# Altium integrated library Linear Technology Power Management uModule Regulators.IntLib: 166 symbols (part 37 of 67)
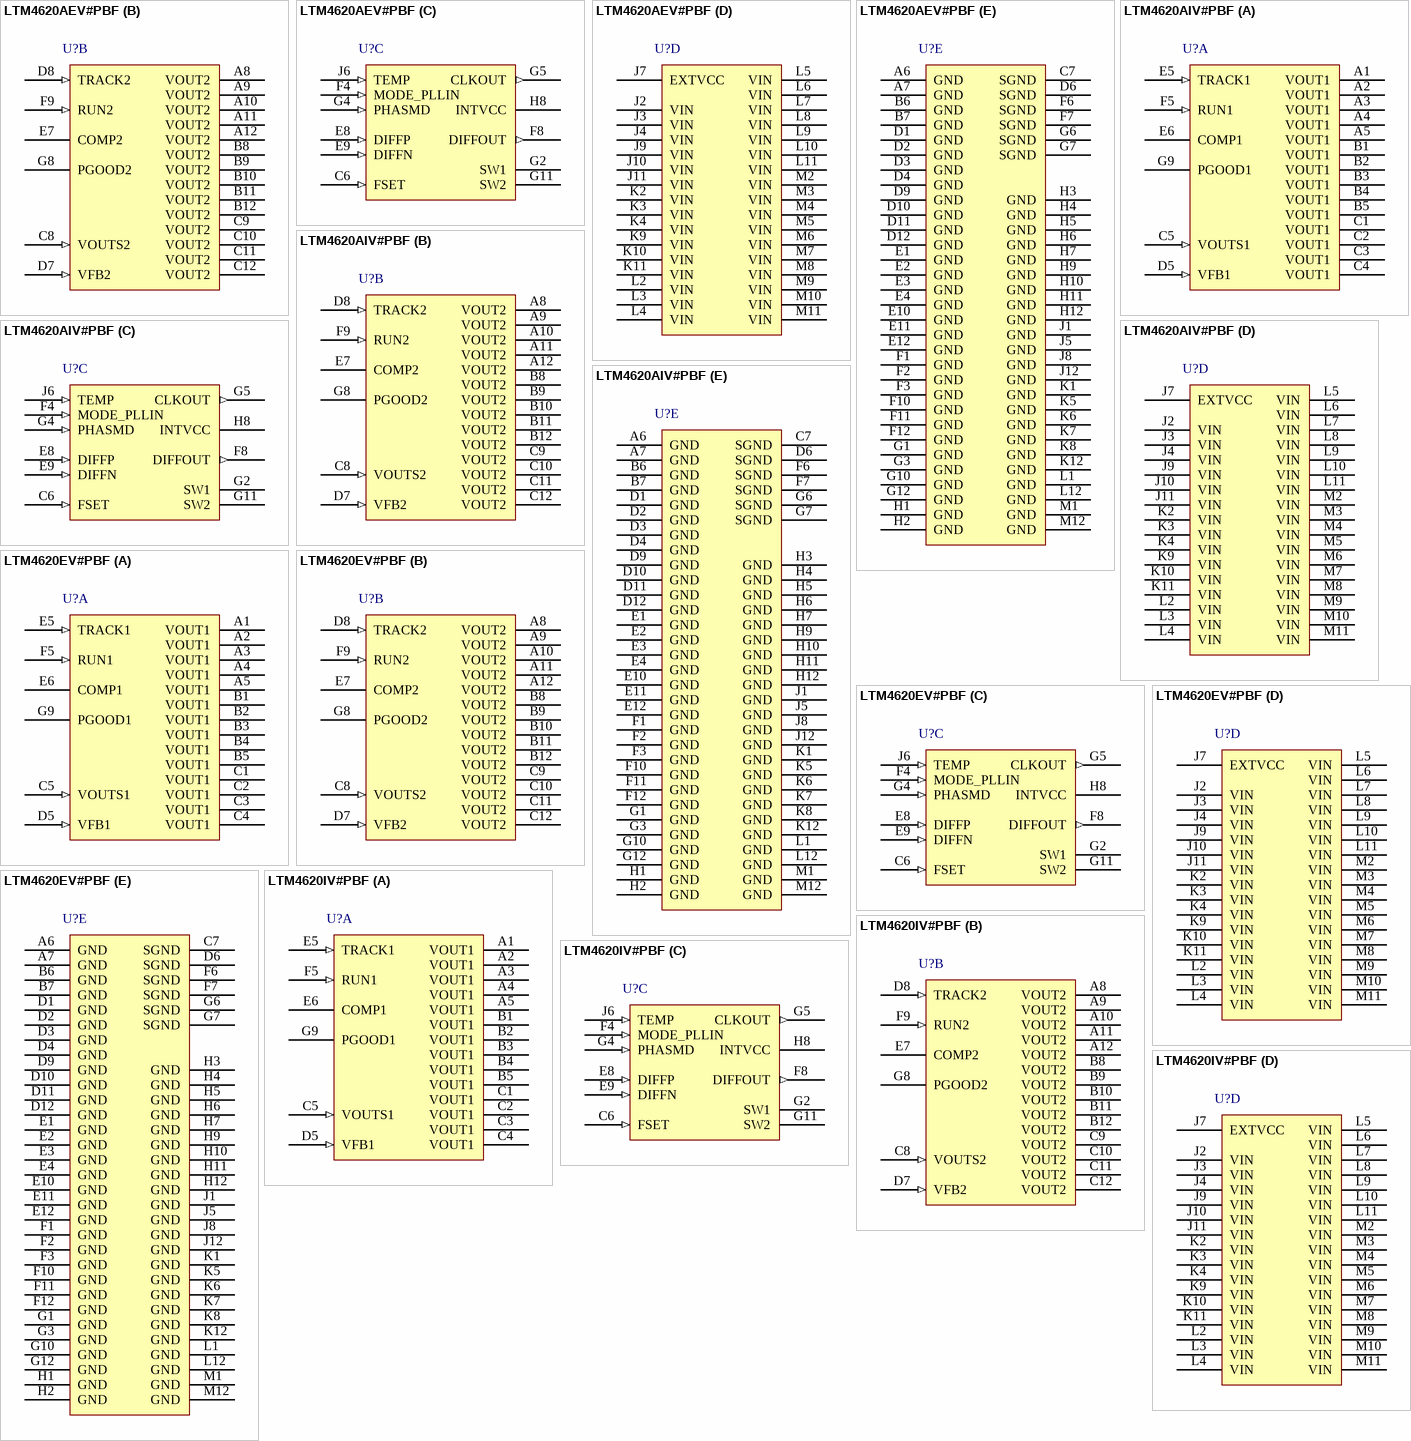
[diagram p63: symbols LTM4620AEV#PBF to LTM4620IV#PBF]

## LTM4620EV#PBF
designator U?
Dual 13 A or Single 26 A DC/DC uModule Regulator, 144-pin LGA, -40 to 125 degC, Pb-Free, Tray; Manufacturer: Linear Technology; PartNumber: LTM4620EV#PBF; Extended Temp: E, I; Frequency Adjust Range: 250kHz - 780kHz; Frequency Sync Range: 400kHz - 780kHz; Frequency(kHz): 500; Ishutdown(uA): 50; Isupply(mA): 5; Number of Outputs: 2; Output Current(A): 13; Switch Current(A): 20; Synchronous: yes; Topology: Buck; Vin Max(V): 16; Vin Min(V): 4.5; Vout Max(V): 2.5; Vout Min(V): 0.6; PackageVersion: Rev. C, 01/2013; PackageReference: LGA-144; PackageDescription: 144-Ball LGA, Body 15 x 15 mm, Pitch 1.27 mm; Supplier 1: Digi-Key; Supplier Part Number 1: LTM4620EV#PBF-ND; Supplier 2: Farnell; Supplier Part Number 2: 2216781; Supplier 3: Newark; Supplier Part Number 3: 27W9514; Packing: Tray; RoHS: TRUE; Tracking: yes; Mounting Technology: Surface Mount; Code_JEDEC: MO-222; ComponentLink1Description: Manufacturer URL; ComponentLink1URL: http://www.linear.com/; ComponentLink2Description: Datasheet; ComponentLink2URL: http://cds.linear.com/docs/en/datasheet/4620f.pdf; ComponentLink3Description: Package Specification; ComponentLink3URL: http://cds.linear.com/docs/en/packaging/05081844_C_lga144.pdf
footprint LT-LGA-144-05-08-1844_V (LGA, 144-Leads, Body 15x15mm, Pitch 1.27mm)
part A pins: A1 VOUT1 (power) "Power Output Pins. Apply output load between these pins and GND pins. Recommend placing output decoupling capacitance directly between these pins and GND pins. Review Table 4. See Note 8 in the Electrical Characteristics (See Datasheet)", A2 VOUT1 (power) "Power Output Pins. Apply output load between these pins and GND pins. Recommend placing output decoupling capacitance directly between these pins and GND pins. Review Table 4. See Note 8 in the Electrical Characteristics (See Datasheet)", A3 VOUT1 (power) "Power Output Pins. Apply output load between these pins and GND pins. Recommend placing output decoupling capacitance directly between these pins and GND pins. Review Table 4. See Note 8 in the Electrical Characteristics (See Datasheet)", A4 VOUT1 (power) "Power Output Pins. Apply output load between these pins and GND pins. Recommend placing output decoupling capacitance directly between these pins and GND pins. Review Table 4. See Note 8 in the Electrical Characteristics (See Datasheet)", A5 VOUT1 (power) "Power Output Pins. Apply output load between these pins and GND pins. Recommend placing output decoupling capacitance directly between these pins and GND pins. Review Table 4. See Note 8 in the Electrical Characteristics (See Datasheet)", B1 VOUT1 (power) "Power Output Pins. Apply output load between these pins and GND pins. Recommend placing output decoupling capacitance directly between these pins and GND pins. Review Table 4. See Note 8 in the Electrical Characteristics (See Datasheet)", B2 VOUT1 (power) "Power Output Pins. Apply output load between these pins and GND pins. Recommend placing output decoupling capacitance directly between these pins and GND pins. Review Table 4. See Note 8 in the Electrical Characteristics (See Datasheet)", B3 VOUT1 (power) "Power Output Pins. Apply output load between these pins and GND pins. Recommend placing output decoupling capacitance directly between these pins and GND pins. Review Table 4. See Note 8 in the Electrical Characteristics (See Datasheet)", B4 VOUT1 (power) "Power Output Pins. Apply output load between these pins and GND pins. Recommend placing output decoupling capacitance directly between these pins and GND pins. Review Table 4. See Note 8 in the Electrical Characteristics (See Datasheet)", B5 VOUT1 (power) "Power Output Pins. Apply output load between these pins and GND pins. Recommend placing output decoupling capacitance directly between these pins and GND pins. Review Table 4. See Note 8 in the Electrical Characteristics (See Datasheet)", C1 VOUT1 (power) "Power Output Pins. Apply output load between these pins and GND pins. Recommend placing output decoupling capacitance directly between these pins and GND pins. Review Table 4. See Note 8 in the Electrical Characteristics (See Datasheet)", C2 VOUT1 (power) "Power Output Pins. Apply output load between these pins and GND pins. Recommend placing output decoupling capacitance directly between these pins and GND pins. Review Table 4. See Note 8 in the Electrical Characteristics (See Datasheet)", C3 VOUT1 (power) "Power Output Pins. Apply output load between these pins and GND pins. Recommend placing output decoupling capacitance directly between these pins and GND pins. Review Table 4. See Note 8 in the Electrical Characteristics (See Datasheet)", C4 VOUT1 (power) "Power Output Pins. Apply output load between these pins and GND pins. Recommend placing output decoupling capacitance directly between these pins and GND pins. Review Table 4. See Note 8 in the Electrical Characteristics (See Datasheet)", C5 VOUTS1 (in) "This pin is connected to the top of the internal top feedback resistor for each output. The pin can be directly connected to its specific output, or connected to DIFFOUT when the remote sense amplifier is used. In (See Datasheet)", D5 VFB1 (in) "The Negative Input of the Error Amplifier for Each Channel. Internally, this pin is connected to VOUTS1 or VOUTS2 with a 60.4kohm precision resistor. Different output voltages can be programmed with an additional resistor (See Datasheet)", E5 TRACK1 (in) "Output Voltage Tracking Pin and Soft-Start Inputs. Each channel has a 1.3uA pull-up current source. When one channel is configured to be master of the two channels, then a capacitor from this pin to ground will set a (See Datasheet)", E6 COMP1 "Current control threshold and error amplifier compensation point for each channel. The current comparator threshold increases with this control voltage. Tie the COMP pins together for parallel operation. The device is (See Datasheet)", F5 RUN1 (in) "Run Control Pin. A voltage above 1.25V will turn on each channel in the module. A voltage below 1.25V on the RUN pin will turn off the related channel. Each RUN pin has a 1uA pull-up current, once the RUN pin reaches 1.2V an (See Datasheet)", G9 PGOOD1 (oc) "Output Voltage Power Good Indicator. Open drain logic output that is pulled to ground when the output voltage is not within +/-10% of the regulation point."
part B pins: A8 VOUT2 (power) "Power Output Pins. Apply output load between these pins and GND pins. Recommend placing output decoupling capacitance directly between these pins and GND pins. Review Table 4. See Note 8 in the Electrical Characteristics (See Datasheet)", A9 VOUT2 (power) "Power Output Pins. Apply output load between these pins and GND pins. Recommend placing output decoupling capacitance directly between these pins and GND pins. Review Table 4. See Note 8 in the Electrical Characteristics (See Datasheet)", A10 VOUT2 (power) "Power Output Pins. Apply output load between these pins and GND pins. Recommend placing output decoupling capacitance directly between these pins and GND pins. Review Table 4. See Note 8 in the Electrical Characteristics (See Datasheet)", A11 VOUT2 (power) "Power Output Pins. Apply output load between these pins and GND pins. Recommend placing output decoupling capacitance directly between these pins and GND pins. Review Table 4. See Note 8 in the Electrical Characteristics (See Datasheet)", A12 VOUT2 (power) "Power Output Pins. Apply output load between these pins and GND pins. Recommend placing output decoupling capacitance directly between these pins and GND pins. Review Table 4. See Note 8 in the Electrical Characteristics (See Datasheet)", B8 VOUT2 (power) "Power Output Pins. Apply output load between these pins and GND pins. Recommend placing output decoupling capacitance directly between these pins and GND pins. Review Table 4. See Note 8 in the Electrical Characteristics (See Datasheet)", B9 VOUT2 (power) "Power Output Pins. Apply output load between these pins and GND pins. Recommend placing output decoupling capacitance directly between these pins and GND pins. Review Table 4. See Note 8 in the Electrical Characteristics (See Datasheet)", B10 VOUT2 (power) "Power Output Pins. Apply output load between these pins and GND pins. Recommend placing output decoupling capacitance directly between these pins and GND pins. Review Table 4. See Note 8 in the Electrical Characteristics (See Datasheet)", B11 VOUT2 (power) "Power Output Pins. Apply output load between these pins and GND pins. Recommend placing output decoupling capacitance directly between these pins and GND pins. Review Table 4. See Note 8 in the Electrical Characteristics (See Datasheet)", B12 VOUT2 (power) "Power Output Pins. Apply output load between these pins and GND pins. Recommend placing output decoupling capacitance directly between these pins and GND pins. Review Table 4. See Note 8 in the Electrical Characteristics (See Datasheet)", C8 VOUTS2 (in) "This pin is connected to the top of the internal top feedback resistor for each output. The pin can be directly connected to its specific output, or connected to DIFFOUT when the remote sense amplifier is used. In (See Datasheet)", C9 VOUT2 (power) "Power Output Pins. Apply output load between these pins and GND pins. Recommend placing output decoupling capacitance directly between these pins and GND pins. Review Table 4. See Note 8 in the Electrical Characteristics (See Datasheet)", C10 VOUT2 (power) "Power Output Pins. Apply output load between these pins and GND pins. Recommend placing output decoupling capacitance directly between these pins and GND pins. Review Table 4. See Note 8 in the Electrical Characteristics (See Datasheet)", C11 VOUT2 (power) "Power Output Pins. Apply output load between these pins and GND pins. Recommend placing output decoupling capacitance directly between these pins and GND pins. Review Table 4. See Note 8 in the Electrical Characteristics (See Datasheet)", C12 VOUT2 (power) "Power Output Pins. Apply output load between these pins and GND pins. Recommend placing output decoupling capacitance directly between these pins and GND pins. Review Table 4. See Note 8 in the Electrical Characteristics (See Datasheet)", D7 VFB2 (in) "The Negative Input of the Error Amplifier for Each Channel. Internally, this pin is connected to VOUTS1 or VOUTS2 with a 60.4kohm precision resistor. Different output voltages can be programmed with an additional resistor (See Datasheet)", D8 TRACK2 (in) "Output Voltage Tracking Pin and Soft-Start Inputs. Each channel has a 1.3uA pull-up current source. When one channel is configured to be master of the two channels, then a capacitor from this pin to ground will set a (See Datasheet)", E7 COMP2 "Current control threshold and error amplifier compensation point for each channel. The current comparator threshold increases with this control voltage. Tie the COMP pins together for parallel operation. The device is (See Datasheet)", F9 RUN2 (in) "Run Control Pin. A voltage above 1.25V will turn on each channel in the module. A voltage below 1.25V on the RUN pin will turn off the related channel. Each RUN pin has a 1uA pull-up current, once the RUN pin reaches 1.2V an (See Datasheet)", G8 PGOOD2 (oc) "Output Voltage Power Good Indicator. Open drain logic output that is pulled to ground when the output voltage is not within +/-10% of the regulation point."
part C pins: C6 FSET (in) "Frequency Set Pin. A 10uA current is sourced from this pin. A resistor from this pin to ground sets a voltage that in turn programs the operating frequency. Alternatively, this pin can be driven with a DC voltage that can (See Datasheet)", E8 DIFFP (in) "Positive input of the remote sense amplifier. This pin is connected to the remote sense point of the output voltage. See the Applications Information section.", E9 DIFFN (in) "Negative input of the remote sense amplifier. This pin is connected to the remote sense point of the output GND. See the Applications Information section.", F4 MODE_PLLIN (in) "Force Continuous Mode, Burst Mode Operation, or Pulse-Skipping Mode Selection Pin and External Synchronization Input to Phase Detector Pin. Connect this pin to SGND to force both channels into force continuous mode of (See Datasheet)", F8 DIFFOUT (out) "Internal Remote Sense Amplifier Output. Connect this pin to VOUTS1 or VOUTS2 depending on which output is using remote sense. In parallel operation connect one of the VOUTS pin to DIFFOUT for remote sensing.", G2 SW1 "Switching node of each channel that is used for testing purposes. Also an R-C snubber network can be applied to reduce or eliminate switch node ringing, or otherwise leave floating. See the Applications Information section.", G4 PHASMD (in) "Connect this pin to SGND, INTVCC, or floating this pin to select the phase of CLKOUT to 60 degrees, 120 degrees, and 90 degrees respectively.", G5 CLKOUT (out) "Clock output with phase control using the PHASMD pin to enable multiphase operation between devices. See the Applications Information section.", G11 SW2 "Switching node of each channel that is used for testing purposes. Also an R-C snubber network can be applied to reduce or eliminate switch node ringing, or otherwise leave floating. See the Applications Information section.", H8 INTVCC (power) "Internal 5V Regulator Output. The control circuits and internal gate drivers are powered from this voltage. Decouple this pin to PGND with a 4.7uF low ESR tantalum or ceramic. INTVCC is activated when either RUN1 or RUN2 is (See Datasheet)", J6 TEMP (in) "Onboard Temperature Diode for Monitoring the VBE Junction Voltage Change with Temperature. See the Applications Information section."
part D pins: J2 VIN (power) "Power Input Pins. Apply input voltage between these pins and GND pins. Recommend placing input decoupling capacitance directly between VIN pins and GND pins.", J3 VIN (power) "Power Input Pins. Apply input voltage between these pins and GND pins. Recommend placing input decoupling capacitance directly between VIN pins and GND pins.", J4 VIN (power) "Power Input Pins. Apply input voltage between these pins and GND pins. Recommend placing input decoupling capacitance directly between VIN pins and GND pins.", J7 EXTVCC (power) "External power input that is enabled through a switch to INTVCC whenever EXTVCC is greater than 4.7V. Do not exceed 6V on this input, and connect this pin to VIN when operating VIN on 5V. An efficiency increase will occur (See Datasheet)", J9 VIN (power) "Power Input Pins. Apply input voltage between these pins and GND pins. Recommend placing input decoupling capacitance directly between VIN pins and GND pins.", J10 VIN (power) "Power Input Pins. Apply input voltage between these pins and GND pins. Recommend placing input decoupling capacitance directly between VIN pins and GND pins.", J11 VIN (power) "Power Input Pins. Apply input voltage between these pins and GND pins. Recommend placing input decoupling capacitance directly between VIN pins and GND pins.", K2 VIN (power) "Power Input Pins. Apply input voltage between these pins and GND pins. Recommend placing input decoupling capacitance directly between VIN pins and GND pins.", K3 VIN (power) "Power Input Pins. Apply input voltage between these pins and GND pins. Recommend placing input decoupling capacitance directly between VIN pins and GND pins.", K4 VIN (power) "Power Input Pins. Apply input voltage between these pins and GND pins. Recommend placing input decoupling capacitance directly between VIN pins and GND pins.", K9 VIN (power) "Power Input Pins. Apply input voltage between these pins and GND pins. Recommend placing input decoupling capacitance directly between VIN pins and GND pins.", K10 VIN (power) "Power Input Pins. Apply input voltage between these pins and GND pins. Recommend placing input decoupling capacitance directly between VIN pins and GND pins.", K11 VIN (power) "Power Input Pins. Apply input voltage between these pins and GND pins. Recommend placing input decoupling capacitance directly between VIN pins and GND pins.", L2 VIN (power) "Power Input Pins. Apply input voltage between these pins and GND pins. Recommend placing input decoupling capacitance directly between VIN pins and GND pins.", L3 VIN (power) "Power Input Pins. Apply input voltage between these pins and GND pins. Recommend placing input decoupling capacitance directly between VIN pins and GND pins.", L4 VIN (power) "Power Input Pins. Apply input voltage between these pins and GND pins. Recommend placing input decoupling capacitance directly between VIN pins and GND pins.", L5 VIN (power) "Power Input Pins. Apply input voltage between these pins and GND pins. Recommend placing input decoupling capacitance directly between VIN pins and GND pins.", L6 VIN (power) "Power Input Pins. Apply input voltage between these pins and GND pins. Recommend placing input decoupling capacitance directly between VIN pins and GND pins.", L7 VIN (power) "Power Input Pins. Apply input voltage between these pins and GND pins. Recommend placing input decoupling capacitance directly between VIN pins and GND pins.", L8 VIN (power) "Power Input Pins. Apply input voltage between these pins and GND pins. Recommend placing input decoupling capacitance directly between VIN pins and GND pins.", L9 VIN (power) "Power Input Pins. Apply input voltage between these pins and GND pins. Recommend placing input decoupling capacitance directly between VIN pins and GND pins.", L10 VIN (power) "Power Input Pins. Apply input voltage between these pins and GND pins. Recommend placing input decoupling capacitance directly between VIN pins and GND pins.", L11 VIN (power) "Power Input Pins. Apply input voltage between these pins and GND pins. Recommend placing input decoupling capacitance directly between VIN pins and GND pins.", M2 VIN (power) "Power Input Pins. Apply input voltage between these pins and GND pins. Recommend placing input decoupling capacitance directly between VIN pins and GND pins.", M3 VIN (power) "Power Input Pins. Apply input voltage between these pins and GND pins. Recommend placing input decoupling capacitance directly between VIN pins and GND pins.", M4 VIN (power) "Power Input Pins. Apply input voltage between these pins and GND pins. Recommend placing input decoupling capacitance directly between VIN pins and GND pins.", M5 VIN (power) "Power Input Pins. Apply input voltage between these pins and GND pins. Recommend placing input decoupling capacitance directly between VIN pins and GND pins.", M6 VIN (power) "Power Input Pins. Apply input voltage between these pins and GND pins. Recommend placing input decoupling capacitance directly between VIN pins and GND pins.", M7 VIN (power) "Power Input Pins. Apply input voltage between these pins and GND pins. Recommend placing input decoupling capacitance directly between VIN pins and GND pins.", M8 VIN (power) "Power Input Pins. Apply input voltage between these pins and GND pins. Recommend placing input decoupling capacitance directly between VIN pins and GND pins.", M9 VIN (power) "Power Input Pins. Apply input voltage between these pins and GND pins. Recommend placing input decoupling capacitance directly between VIN pins and GND pins.", M10 VIN (power) "Power Input Pins. Apply input voltage between these pins and GND pins. Recommend placing input decoupling capacitance directly between VIN pins and GND pins.", M11 VIN (power) "Power Input Pins. Apply input voltage between these pins and GND pins. Recommend placing input decoupling capacitance directly between VIN pins and GND pins."
part E pins: A6 GND (power) "Power Ground Pins for Both Input and Output Returns.", A7 GND (power) "Power Ground Pins for Both Input and Output Returns.", B6 GND (power) "Power Ground Pins for Both Input and Output Returns.", B7 GND (power) "Power Ground Pins for Both Input and Output Returns.", C7 SGND (power) "Signal Ground Pin. Return ground path for all analog and low power circuitry. Tie a single connection to the output capacitor GND in the application. See layout guidelines in Figure 22.", D1 GND (power) "Power Ground Pins for Both Input and Output Returns.", D2 GND (power) "Power Ground Pins for Both Input and Output Returns.", D3 GND (power) "Power Ground Pins for Both Input and Output Returns.", D4 GND (power) "Power Ground Pins for Both Input and Output Returns.", D6 SGND (power) "Signal Ground Pin. Return ground path for all analog and low power circuitry. Tie a single connection to the output capacitor GND in the application. See layout guidelines in Figure 22.", D9 GND (power) "Power Ground Pins for Both Input and Output Returns.", D10 GND (power) "Power Ground Pins for Both Input and Output Returns.", D11 GND (power) "Power Ground Pins for Both Input and Output Returns.", D12 GND (power) "Power Ground Pins for Both Input and Output Returns.", E1 GND (power) "Power Ground Pins for Both Input and Output Returns.", E2 GND (power) "Power Ground Pins for Both Input and Output Returns.", E3 GND (power) "Power Ground Pins for Both Input and Output Returns.", E4 GND (power) "Power Ground Pins for Both Input and Output Returns.", E10 GND (power) "Power Ground Pins for Both Input and Output Returns.", E11 GND (power) "Power Ground Pins for Both Input and Output Returns.", E12 GND (power) "Power Ground Pins for Both Input and Output Returns.", F1 GND (power) "Power Ground Pins for Both Input and Output Returns.", F2 GND (power) "Power Ground Pins for Both Input and Output Returns.", F3 GND (power) "Power Ground Pins for Both Input and Output Returns.", F6 SGND (power) "Signal Ground Pin. Return ground path for all analog and low power circuitry. Tie a single connection to the output capacitor GND in the application. See layout guidelines in Figure 22.", F7 SGND (power) "Signal Ground Pin. Return ground path for all analog and low power circuitry. Tie a single connection to the output capacitor GND in the application. See layout guidelines in Figure 22.", F10 GND (power) "Power Ground Pins for Both Input and Output Returns.", F11 GND (power) "Power Ground Pins for Both Input and Output Returns.", F12 GND (power) "Power Ground Pins for Both Input and Output Returns.", G1 GND (power) "Power Ground Pins for Both Input and Output Returns.", G3 GND (power) "Power Ground Pins for Both Input and Output Returns.", G6 SGND (power) "Signal Ground Pin. Return ground path for all analog and low power circuitry. Tie a single connection to the output capacitor GND in the application. See layout guidelines in Figure 22.", G7 SGND (power) "Signal Ground Pin. Return ground path for all analog and low power circuitry. Tie a single connection to the output capacitor GND in the application. See layout guidelines in Figure 22.", G10 GND (power) "Power Ground Pins for Both Input and Output Returns.", G12 GND (power) "Power Ground Pins for Both Input and Output Returns.", H1 GND (power) "Power Ground Pins for Both Input and Output Returns.", H2 GND (power) "Power Ground Pins for Both Input and Output Returns.", H3 GND (power) "Power Ground Pins for Both Input and Output Returns.", H4 GND (power) "Power Ground Pins for Both Input and Output Returns.", H5 GND (power) "Power Ground Pins for Both Input and Output Returns.", H6 GND (power) "Power Ground Pins for Both Input and Output Returns.", H7 GND (power) "Power Ground Pins for Both Input and Output Returns.", H9 GND (power) "Power Ground Pins for Both Input and Output Returns.", H10 GND (power) "Power Ground Pins for Both Input and Output Returns.", H11 GND (power) "Power Ground Pins for Both Input and Output Returns.", H12 GND (power) "Power Ground Pins for Both Input and Output Returns.", J1 GND (power) "Power Ground Pins for Both Input and Output Returns.", J5 GND (power) "Power Ground Pins for Both Input and Output Returns.", J8 GND (power) "Power Ground Pins for Both Input and Output Returns.", J12 GND (power) "Power Ground Pins for Both Input and Output Returns.", K1 GND (power) "Power Ground Pins for Both Input and Output Returns.", K5 GND (power) "Power Ground Pins for Both Input and Output Returns.", K6 GND (power) "Power Ground Pins for Both Input and Output Returns.", K7 GND (power) "Power Ground Pins for Both Input and Output Returns.", K8 GND (power) "Power Ground Pins for Both Input and Output Returns.", K12 GND (power) "Power Ground Pins for Both Input and Output Returns.", L1 GND (power) "Power Ground Pins for Both Input and Output Returns.", L12 GND (power) "Power Ground Pins for Both Input and Output Returns.", M1 GND (power) "Power Ground Pins for Both Input and Output Returns.", M12 GND (power) "Power Ground Pins for Both Input and Output Returns."

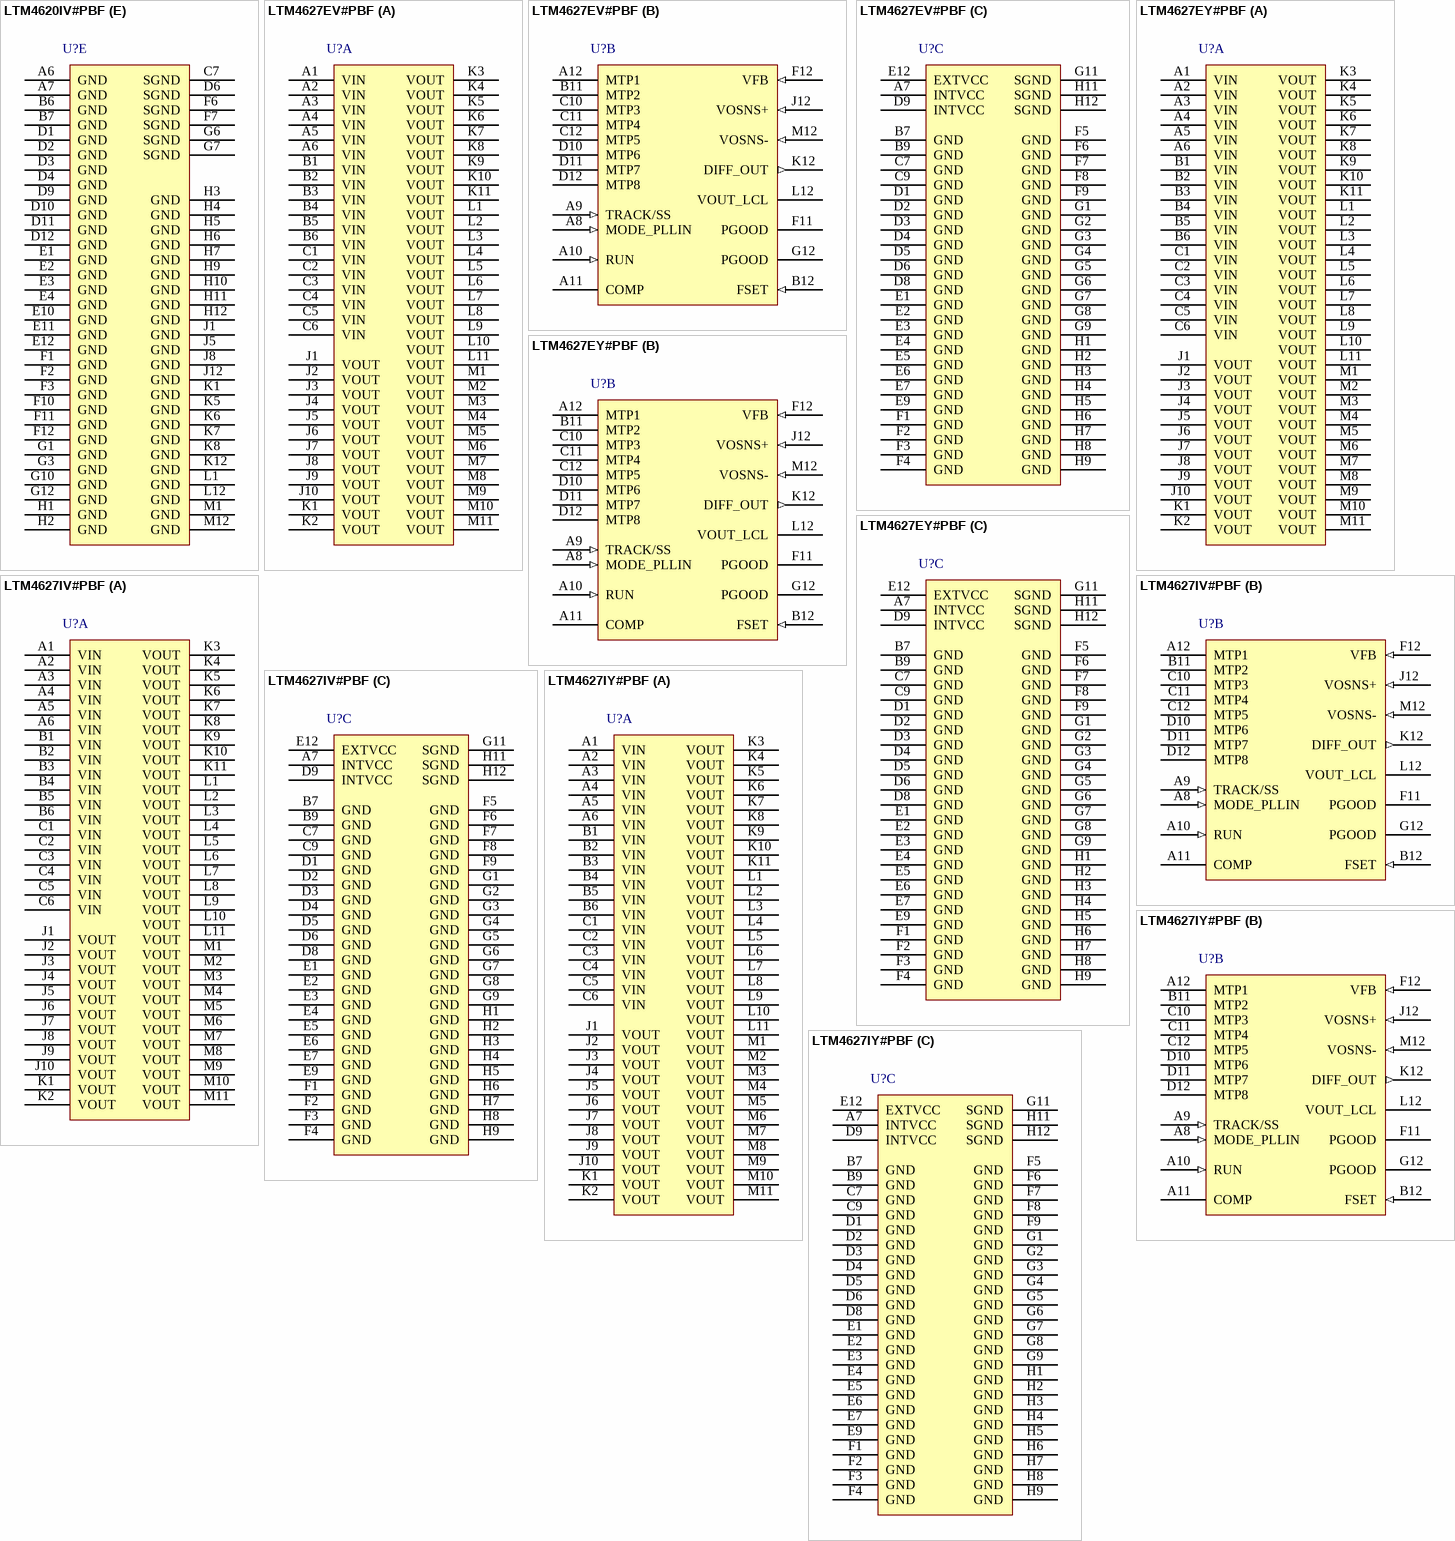
[diagram p17: symbols LTM4620IV#PBF to LTM4627IY#PBF]

## LTM4620IV#PBF
designator U?
Dual 13 A or Single 26 A DC/DC uModule Regulator, 144-pin LGA, -40 to 125 degC, Pb-Free, Tray; Manufacturer: Linear Technology; PartNumber: LTM4620IV#PBF; Extended Temp: E, I; Frequency Adjust Range: 250kHz - 780kHz; Frequency Sync Range: 400kHz - 780kHz; Frequency(kHz): 500; Ishutdown(uA): 50; Isupply(mA): 5; Number of Outputs: 2; Output Current(A): 13; Switch Current(A): 20; Synchronous: yes; Topology: Buck; Vin Max(V): 16; Vin Min(V): 4.5; Vout Max(V): 2.5; Vout Min(V): 0.6; PackageVersion: Rev. C, 01/2013; PackageReference: LGA-144; PackageDescription: 144-Ball LGA, Body 15 x 15 mm, Pitch 1.27 mm; Supplier 1: Digi-Key; Supplier Part Number 1: LTM4620IV#PBF-ND; Supplier 2: Farnell; Supplier Part Number 2: 2215137; Supplier 3: Newark; Supplier Part Number 3: 27W9515; Packing: Tray; RoHS: TRUE; Tracking: yes; Mounting Technology: Surface Mount; Code_JEDEC: MO-222; ComponentLink1Description: Manufacturer URL; ComponentLink1URL: http://www.linear.com/; ComponentLink2Description: Datasheet; ComponentLink2URL: http://cds.linear.com/docs/en/datasheet/4620f.pdf; ComponentLink3Description: Package Specification; ComponentLink3URL: http://cds.linear.com/docs/en/packaging/05081844_C_lga144.pdf
footprint LT-LGA-144-05-08-1844_V (LGA, 144-Leads, Body 15x15mm, Pitch 1.27mm)
part A pins: A1 VOUT1 (power) "Power Output Pins. Apply output load between these pins and GND pins. Recommend placing output decoupling capacitance directly between these pins and GND pins. Review Table 4. See Note 8 in the Electrical Characteristics (See Datasheet)", A2 VOUT1 (power) "Power Output Pins. Apply output load between these pins and GND pins. Recommend placing output decoupling capacitance directly between these pins and GND pins. Review Table 4. See Note 8 in the Electrical Characteristics (See Datasheet)", A3 VOUT1 (power) "Power Output Pins. Apply output load between these pins and GND pins. Recommend placing output decoupling capacitance directly between these pins and GND pins. Review Table 4. See Note 8 in the Electrical Characteristics (See Datasheet)", A4 VOUT1 (power) "Power Output Pins. Apply output load between these pins and GND pins. Recommend placing output decoupling capacitance directly between these pins and GND pins. Review Table 4. See Note 8 in the Electrical Characteristics (See Datasheet)", A5 VOUT1 (power) "Power Output Pins. Apply output load between these pins and GND pins. Recommend placing output decoupling capacitance directly between these pins and GND pins. Review Table 4. See Note 8 in the Electrical Characteristics (See Datasheet)", B1 VOUT1 (power) "Power Output Pins. Apply output load between these pins and GND pins. Recommend placing output decoupling capacitance directly between these pins and GND pins. Review Table 4. See Note 8 in the Electrical Characteristics (See Datasheet)", B2 VOUT1 (power) "Power Output Pins. Apply output load between these pins and GND pins. Recommend placing output decoupling capacitance directly between these pins and GND pins. Review Table 4. See Note 8 in the Electrical Characteristics (See Datasheet)", B3 VOUT1 (power) "Power Output Pins. Apply output load between these pins and GND pins. Recommend placing output decoupling capacitance directly between these pins and GND pins. Review Table 4. See Note 8 in the Electrical Characteristics (See Datasheet)", B4 VOUT1 (power) "Power Output Pins. Apply output load between these pins and GND pins. Recommend placing output decoupling capacitance directly between these pins and GND pins. Review Table 4. See Note 8 in the Electrical Characteristics (See Datasheet)", B5 VOUT1 (power) "Power Output Pins. Apply output load between these pins and GND pins. Recommend placing output decoupling capacitance directly between these pins and GND pins. Review Table 4. See Note 8 in the Electrical Characteristics (See Datasheet)", C1 VOUT1 (power) "Power Output Pins. Apply output load between these pins and GND pins. Recommend placing output decoupling capacitance directly between these pins and GND pins. Review Table 4. See Note 8 in the Electrical Characteristics (See Datasheet)", C2 VOUT1 (power) "Power Output Pins. Apply output load between these pins and GND pins. Recommend placing output decoupling capacitance directly between these pins and GND pins. Review Table 4. See Note 8 in the Electrical Characteristics (See Datasheet)", C3 VOUT1 (power) "Power Output Pins. Apply output load between these pins and GND pins. Recommend placing output decoupling capacitance directly between these pins and GND pins. Review Table 4. See Note 8 in the Electrical Characteristics (See Datasheet)", C4 VOUT1 (power) "Power Output Pins. Apply output load between these pins and GND pins. Recommend placing output decoupling capacitance directly between these pins and GND pins. Review Table 4. See Note 8 in the Electrical Characteristics (See Datasheet)", C5 VOUTS1 (in) "This pin is connected to the top of the internal top feedback resistor for each output. The pin can be directly connected to its specific output, or connected to DIFFOUT when the remote sense amplifier is used. In (See Datasheet)", D5 VFB1 (in) "The Negative Input of the Error Amplifier for Each Channel. Internally, this pin is connected to VOUTS1 or VOUTS2 with a 60.4kohm precision resistor. Different output voltages can be programmed with an additional resistor (See Datasheet)", E5 TRACK1 (in) "Output Voltage Tracking Pin and Soft-Start Inputs. Each channel has a 1.3uA pull-up current source. When one channel is configured to be master of the two channels, then a capacitor from this pin to ground will set a (See Datasheet)", E6 COMP1 "Current control threshold and error amplifier compensation point for each channel. The current comparator threshold increases with this control voltage. Tie the COMP pins together for parallel operation. The device is (See Datasheet)", F5 RUN1 (in) "Run Control Pin. A voltage above 1.25V will turn on each channel in the module. A voltage below 1.25V on the RUN pin will turn off the related channel. Each RUN pin has a 1uA pull-up current, once the RUN pin reaches 1.2V an (See Datasheet)", G9 PGOOD1 (oc) "Output Voltage Power Good Indicator. Open drain logic output that is pulled to ground when the output voltage is not within +/-10% of the regulation point."
part B pins: A8 VOUT2 (power) "Power Output Pins. Apply output load between these pins and GND pins. Recommend placing output decoupling capacitance directly between these pins and GND pins. Review Table 4. See Note 8 in the Electrical Characteristics (See Datasheet)", A9 VOUT2 (power) "Power Output Pins. Apply output load between these pins and GND pins. Recommend placing output decoupling capacitance directly between these pins and GND pins. Review Table 4. See Note 8 in the Electrical Characteristics (See Datasheet)", A10 VOUT2 (power) "Power Output Pins. Apply output load between these pins and GND pins. Recommend placing output decoupling capacitance directly between these pins and GND pins. Review Table 4. See Note 8 in the Electrical Characteristics (See Datasheet)", A11 VOUT2 (power) "Power Output Pins. Apply output load between these pins and GND pins. Recommend placing output decoupling capacitance directly between these pins and GND pins. Review Table 4. See Note 8 in the Electrical Characteristics (See Datasheet)", A12 VOUT2 (power) "Power Output Pins. Apply output load between these pins and GND pins. Recommend placing output decoupling capacitance directly between these pins and GND pins. Review Table 4. See Note 8 in the Electrical Characteristics (See Datasheet)", B8 VOUT2 (power) "Power Output Pins. Apply output load between these pins and GND pins. Recommend placing output decoupling capacitance directly between these pins and GND pins. Review Table 4. See Note 8 in the Electrical Characteristics (See Datasheet)", B9 VOUT2 (power) "Power Output Pins. Apply output load between these pins and GND pins. Recommend placing output decoupling capacitance directly between these pins and GND pins. Review Table 4. See Note 8 in the Electrical Characteristics (See Datasheet)", B10 VOUT2 (power) "Power Output Pins. Apply output load between these pins and GND pins. Recommend placing output decoupling capacitance directly between these pins and GND pins. Review Table 4. See Note 8 in the Electrical Characteristics (See Datasheet)", B11 VOUT2 (power) "Power Output Pins. Apply output load between these pins and GND pins. Recommend placing output decoupling capacitance directly between these pins and GND pins. Review Table 4. See Note 8 in the Electrical Characteristics (See Datasheet)", B12 VOUT2 (power) "Power Output Pins. Apply output load between these pins and GND pins. Recommend placing output decoupling capacitance directly between these pins and GND pins. Review Table 4. See Note 8 in the Electrical Characteristics (See Datasheet)", C8 VOUTS2 (in) "This pin is connected to the top of the internal top feedback resistor for each output. The pin can be directly connected to its specific output, or connected to DIFFOUT when the remote sense amplifier is used. In (See Datasheet)", C9 VOUT2 (power) "Power Output Pins. Apply output load between these pins and GND pins. Recommend placing output decoupling capacitance directly between these pins and GND pins. Review Table 4. See Note 8 in the Electrical Characteristics (See Datasheet)", C10 VOUT2 (power) "Power Output Pins. Apply output load between these pins and GND pins. Recommend placing output decoupling capacitance directly between these pins and GND pins. Review Table 4. See Note 8 in the Electrical Characteristics (See Datasheet)", C11 VOUT2 (power) "Power Output Pins. Apply output load between these pins and GND pins. Recommend placing output decoupling capacitance directly between these pins and GND pins. Review Table 4. See Note 8 in the Electrical Characteristics (See Datasheet)", C12 VOUT2 (power) "Power Output Pins. Apply output load between these pins and GND pins. Recommend placing output decoupling capacitance directly between these pins and GND pins. Review Table 4. See Note 8 in the Electrical Characteristics (See Datasheet)", D7 VFB2 (in) "The Negative Input of the Error Amplifier for Each Channel. Internally, this pin is connected to VOUTS1 or VOUTS2 with a 60.4kohm precision resistor. Different output voltages can be programmed with an additional resistor (See Datasheet)", D8 TRACK2 (in) "Output Voltage Tracking Pin and Soft-Start Inputs. Each channel has a 1.3uA pull-up current source. When one channel is configured to be master of the two channels, then a capacitor from this pin to ground will set a (See Datasheet)", E7 COMP2 "Current control threshold and error amplifier compensation point for each channel. The current comparator threshold increases with this control voltage. Tie the COMP pins together for parallel operation. The device is (See Datasheet)", F9 RUN2 (in) "Run Control Pin. A voltage above 1.25V will turn on each channel in the module. A voltage below 1.25V on the RUN pin will turn off the related channel. Each RUN pin has a 1uA pull-up current, once the RUN pin reaches 1.2V an (See Datasheet)", G8 PGOOD2 (oc) "Output Voltage Power Good Indicator. Open drain logic output that is pulled to ground when the output voltage is not within +/-10% of the regulation point."
part C pins: C6 FSET (in) "Frequency Set Pin. A 10uA current is sourced from this pin. A resistor from this pin to ground sets a voltage that in turn programs the operating frequency. Alternatively, this pin can be driven with a DC voltage that can (See Datasheet)", E8 DIFFP (in) "Positive input of the remote sense amplifier. This pin is connected to the remote sense point of the output voltage. See the Applications Information section.", E9 DIFFN (in) "Negative input of the remote sense amplifier. This pin is connected to the remote sense point of the output GND. See the Applications Information section.", F4 MODE_PLLIN (in) "Force Continuous Mode, Burst Mode Operation, or Pulse-Skipping Mode Selection Pin and External Synchronization Input to Phase Detector Pin. Connect this pin to SGND to force both channels into force continuous mode of (See Datasheet)", F8 DIFFOUT (out) "Internal Remote Sense Amplifier Output. Connect this pin to VOUTS1 or VOUTS2 depending on which output is using remote sense. In parallel operation connect one of the VOUTS pin to DIFFOUT for remote sensing.", G2 SW1 "Switching node of each channel that is used for testing purposes. Also an R-C snubber network can be applied to reduce or eliminate switch node ringing, or otherwise leave floating. See the Applications Information section.", G4 PHASMD (in) "Connect this pin to SGND, INTVCC, or floating this pin to select the phase of CLKOUT to 60 degrees, 120 degrees, and 90 degrees respectively.", G5 CLKOUT (out) "Clock output with phase control using the PHASMD pin to enable multiphase operation between devices. See the Applications Information section.", G11 SW2 "Switching node of each channel that is used for testing purposes. Also an R-C snubber network can be applied to reduce or eliminate switch node ringing, or otherwise leave floating. See the Applications Information section.", H8 INTVCC (power) "Internal 5V Regulator Output. The control circuits and internal gate drivers are powered from this voltage. Decouple this pin to PGND with a 4.7uF low ESR tantalum or ceramic. INTVCC is activated when either RUN1 or RUN2 is (See Datasheet)", J6 TEMP (in) "Onboard Temperature Diode for Monitoring the VBE Junction Voltage Change with Temperature. See the Applications Information section."
part D pins: J2 VIN (power) "Power Input Pins. Apply input voltage between these pins and GND pins. Recommend placing input decoupling capacitance directly between VIN pins and GND pins.", J3 VIN (power) "Power Input Pins. Apply input voltage between these pins and GND pins. Recommend placing input decoupling capacitance directly between VIN pins and GND pins.", J4 VIN (power) "Power Input Pins. Apply input voltage between these pins and GND pins. Recommend placing input decoupling capacitance directly between VIN pins and GND pins.", J7 EXTVCC (power) "External power input that is enabled through a switch to INTVCC whenever EXTVCC is greater than 4.7V. Do not exceed 6V on this input, and connect this pin to VIN when operating VIN on 5V. An efficiency increase will occur (See Datasheet)", J9 VIN (power) "Power Input Pins. Apply input voltage between these pins and GND pins. Recommend placing input decoupling capacitance directly between VIN pins and GND pins.", J10 VIN (power) "Power Input Pins. Apply input voltage between these pins and GND pins. Recommend placing input decoupling capacitance directly between VIN pins and GND pins.", J11 VIN (power) "Power Input Pins. Apply input voltage between these pins and GND pins. Recommend placing input decoupling capacitance directly between VIN pins and GND pins.", K2 VIN (power) "Power Input Pins. Apply input voltage between these pins and GND pins. Recommend placing input decoupling capacitance directly between VIN pins and GND pins.", K3 VIN (power) "Power Input Pins. Apply input voltage between these pins and GND pins. Recommend placing input decoupling capacitance directly between VIN pins and GND pins.", K4 VIN (power) "Power Input Pins. Apply input voltage between these pins and GND pins. Recommend placing input decoupling capacitance directly between VIN pins and GND pins.", K9 VIN (power) "Power Input Pins. Apply input voltage between these pins and GND pins. Recommend placing input decoupling capacitance directly between VIN pins and GND pins.", K10 VIN (power) "Power Input Pins. Apply input voltage between these pins and GND pins. Recommend placing input decoupling capacitance directly between VIN pins and GND pins.", K11 VIN (power) "Power Input Pins. Apply input voltage between these pins and GND pins. Recommend placing input decoupling capacitance directly between VIN pins and GND pins.", L2 VIN (power) "Power Input Pins. Apply input voltage between these pins and GND pins. Recommend placing input decoupling capacitance directly between VIN pins and GND pins.", L3 VIN (power) "Power Input Pins. Apply input voltage between these pins and GND pins. Recommend placing input decoupling capacitance directly between VIN pins and GND pins.", L4 VIN (power) "Power Input Pins. Apply input voltage between these pins and GND pins. Recommend placing input decoupling capacitance directly between VIN pins and GND pins.", L5 VIN (power) "Power Input Pins. Apply input voltage between these pins and GND pins. Recommend placing input decoupling capacitance directly between VIN pins and GND pins.", L6 VIN (power) "Power Input Pins. Apply input voltage between these pins and GND pins. Recommend placing input decoupling capacitance directly between VIN pins and GND pins.", L7 VIN (power) "Power Input Pins. Apply input voltage between these pins and GND pins. Recommend placing input decoupling capacitance directly between VIN pins and GND pins.", L8 VIN (power) "Power Input Pins. Apply input voltage between these pins and GND pins. Recommend placing input decoupling capacitance directly between VIN pins and GND pins.", L9 VIN (power) "Power Input Pins. Apply input voltage between these pins and GND pins. Recommend placing input decoupling capacitance directly between VIN pins and GND pins.", L10 VIN (power) "Power Input Pins. Apply input voltage between these pins and GND pins. Recommend placing input decoupling capacitance directly between VIN pins and GND pins.", L11 VIN (power) "Power Input Pins. Apply input voltage between these pins and GND pins. Recommend placing input decoupling capacitance directly between VIN pins and GND pins.", M2 VIN (power) "Power Input Pins. Apply input voltage between these pins and GND pins. Recommend placing input decoupling capacitance directly between VIN pins and GND pins.", M3 VIN (power) "Power Input Pins. Apply input voltage between these pins and GND pins. Recommend placing input decoupling capacitance directly between VIN pins and GND pins.", M4 VIN (power) "Power Input Pins. Apply input voltage between these pins and GND pins. Recommend placing input decoupling capacitance directly between VIN pins and GND pins.", M5 VIN (power) "Power Input Pins. Apply input voltage between these pins and GND pins. Recommend placing input decoupling capacitance directly between VIN pins and GND pins.", M6 VIN (power) "Power Input Pins. Apply input voltage between these pins and GND pins. Recommend placing input decoupling capacitance directly between VIN pins and GND pins.", M7 VIN (power) "Power Input Pins. Apply input voltage between these pins and GND pins. Recommend placing input decoupling capacitance directly between VIN pins and GND pins.", M8 VIN (power) "Power Input Pins. Apply input voltage between these pins and GND pins. Recommend placing input decoupling capacitance directly between VIN pins and GND pins.", M9 VIN (power) "Power Input Pins. Apply input voltage between these pins and GND pins. Recommend placing input decoupling capacitance directly between VIN pins and GND pins.", M10 VIN (power) "Power Input Pins. Apply input voltage between these pins and GND pins. Recommend placing input decoupling capacitance directly between VIN pins and GND pins.", M11 VIN (power) "Power Input Pins. Apply input voltage between these pins and GND pins. Recommend placing input decoupling capacitance directly between VIN pins and GND pins."
part E pins: A6 GND (power) "Power Ground Pins for Both Input and Output Returns.", A7 GND (power) "Power Ground Pins for Both Input and Output Returns.", B6 GND (power) "Power Ground Pins for Both Input and Output Returns.", B7 GND (power) "Power Ground Pins for Both Input and Output Returns.", C7 SGND (power) "Signal Ground Pin. Return ground path for all analog and low power circuitry. Tie a single connection to the output capacitor GND in the application. See layout guidelines in Figure 22.", D1 GND (power) "Power Ground Pins for Both Input and Output Returns.", D2 GND (power) "Power Ground Pins for Both Input and Output Returns.", D3 GND (power) "Power Ground Pins for Both Input and Output Returns.", D4 GND (power) "Power Ground Pins for Both Input and Output Returns.", D6 SGND (power) "Signal Ground Pin. Return ground path for all analog and low power circuitry. Tie a single connection to the output capacitor GND in the application. See layout guidelines in Figure 22.", D9 GND (power) "Power Ground Pins for Both Input and Output Returns.", D10 GND (power) "Power Ground Pins for Both Input and Output Returns.", D11 GND (power) "Power Ground Pins for Both Input and Output Returns.", D12 GND (power) "Power Ground Pins for Both Input and Output Returns.", E1 GND (power) "Power Ground Pins for Both Input and Output Returns.", E2 GND (power) "Power Ground Pins for Both Input and Output Returns.", E3 GND (power) "Power Ground Pins for Both Input and Output Returns.", E4 GND (power) "Power Ground Pins for Both Input and Output Returns.", E10 GND (power) "Power Ground Pins for Both Input and Output Returns.", E11 GND (power) "Power Ground Pins for Both Input and Output Returns.", E12 GND (power) "Power Ground Pins for Both Input and Output Returns.", F1 GND (power) "Power Ground Pins for Both Input and Output Returns.", F2 GND (power) "Power Ground Pins for Both Input and Output Returns.", F3 GND (power) "Power Ground Pins for Both Input and Output Returns.", F6 SGND (power) "Signal Ground Pin. Return ground path for all analog and low power circuitry. Tie a single connection to the output capacitor GND in the application. See layout guidelines in Figure 22.", F7 SGND (power) "Signal Ground Pin. Return ground path for all analog and low power circuitry. Tie a single connection to the output capacitor GND in the application. See layout guidelines in Figure 22.", F10 GND (power) "Power Ground Pins for Both Input and Output Returns.", F11 GND (power) "Power Ground Pins for Both Input and Output Returns.", F12 GND (power) "Power Ground Pins for Both Input and Output Returns.", G1 GND (power) "Power Ground Pins for Both Input and Output Returns.", G3 GND (power) "Power Ground Pins for Both Input and Output Returns.", G6 SGND (power) "Signal Ground Pin. Return ground path for all analog and low power circuitry. Tie a single connection to the output capacitor GND in the application. See layout guidelines in Figure 22.", G7 SGND (power) "Signal Ground Pin. Return ground path for all analog and low power circuitry. Tie a single connection to the output capacitor GND in the application. See layout guidelines in Figure 22.", G10 GND (power) "Power Ground Pins for Both Input and Output Returns.", G12 GND (power) "Power Ground Pins for Both Input and Output Returns.", H1 GND (power) "Power Ground Pins for Both Input and Output Returns.", H2 GND (power) "Power Ground Pins for Both Input and Output Returns.", H3 GND (power) "Power Ground Pins for Both Input and Output Returns.", H4 GND (power) "Power Ground Pins for Both Input and Output Returns.", H5 GND (power) "Power Ground Pins for Both Input and Output Returns.", H6 GND (power) "Power Ground Pins for Both Input and Output Returns.", H7 GND (power) "Power Ground Pins for Both Input and Output Returns.", H9 GND (power) "Power Ground Pins for Both Input and Output Returns.", H10 GND (power) "Power Ground Pins for Both Input and Output Returns.", H11 GND (power) "Power Ground Pins for Both Input and Output Returns.", H12 GND (power) "Power Ground Pins for Both Input and Output Returns.", J1 GND (power) "Power Ground Pins for Both Input and Output Returns.", J5 GND (power) "Power Ground Pins for Both Input and Output Returns.", J8 GND (power) "Power Ground Pins for Both Input and Output Returns.", J12 GND (power) "Power Ground Pins for Both Input and Output Returns.", K1 GND (power) "Power Ground Pins for Both Input and Output Returns.", K5 GND (power) "Power Ground Pins for Both Input and Output Returns.", K6 GND (power) "Power Ground Pins for Both Input and Output Returns.", K7 GND (power) "Power Ground Pins for Both Input and Output Returns.", K8 GND (power) "Power Ground Pins for Both Input and Output Returns.", K12 GND (power) "Power Ground Pins for Both Input and Output Returns.", L1 GND (power) "Power Ground Pins for Both Input and Output Returns.", L12 GND (power) "Power Ground Pins for Both Input and Output Returns.", M1 GND (power) "Power Ground Pins for Both Input and Output Returns.", M12 GND (power) "Power Ground Pins for Both Input and Output Returns."